# Altium footprint library PCB_Lib.PcbLib: 286 footprints (part 10 of 18)
Each footprint in its own frame and in the unit in brackets; x right, y up, seen from the top. Pads: shape width x height; smd on the part's side, far side on the other; paste and mask are expansions set on the pad; w line width, h text height; cw(c..) or ccw(c..) is an arc to the next point about the centre after c.
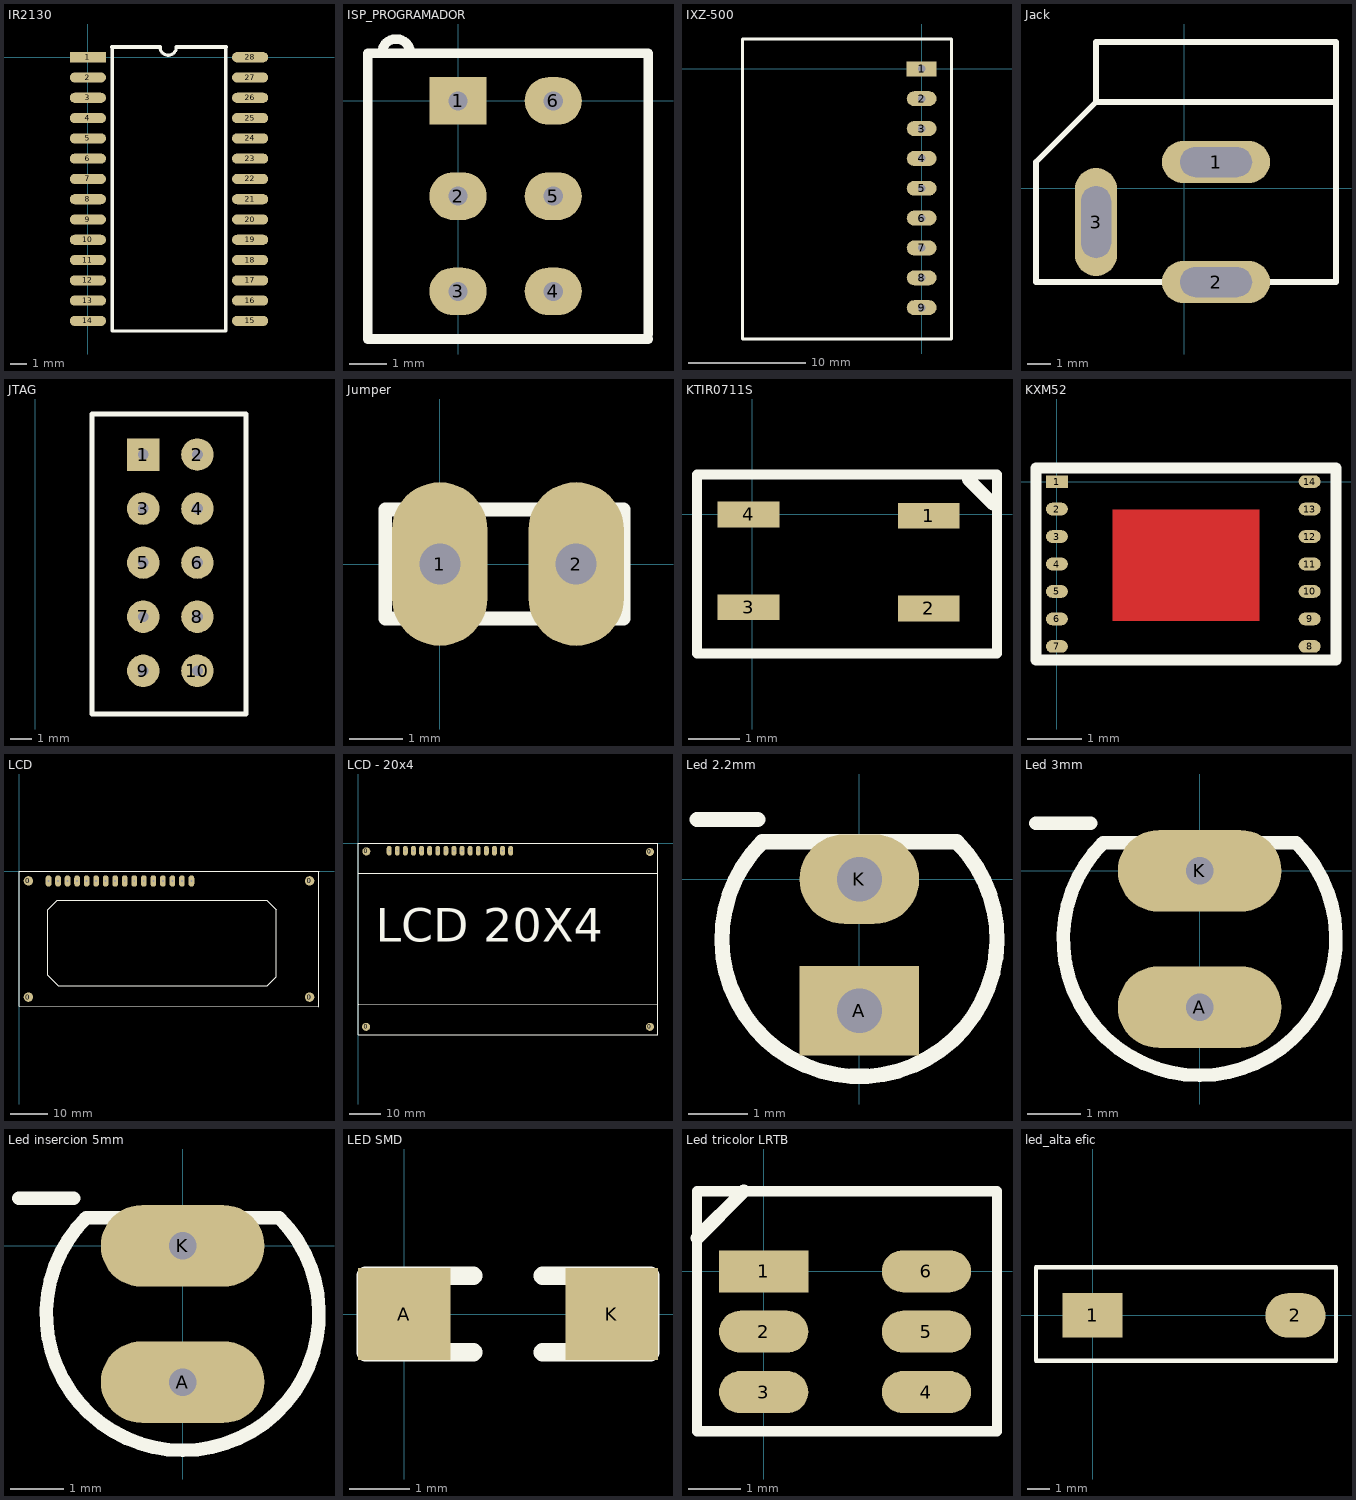
[diagram p9: the footprints below, top view; thin cyan lines are the x and y axes]

## IR2130 [mil]
pads (28):
  rect 89.21x25 smd: 1(0,0)
  oval 89.21x25 smd: 2(0,-50) 3(0,-100) 4(0,-150) 5(0,-200) 6(0,-250) 7(0,-300) 8(0,-350) 9(0,-400) 10(0,-450) 11(0,-500) 12(0,-550) 13(0,-600) 14(0,-650) 15(400,-650) 16(400,-600) 17(400,-550) 18(400,-500) 19(400,-450) 20(400,-400) 21(400,-350) 22(400,-300) 23(400,-250) 24(400,-200) 25(400,-150) 26(400,-100) 27(400,-50) 28(400,0)
Top Overlay:
  lines w7.87: 60,25 60,-675 340,-675 340,25 ; 178,25 ccw(c198,25) 218,25
  lines w10: 60,25 178,25 ; 218,25 340,25

## ISP_PROGRAMADOR [mil]
pads (6):
  rect 60x50 hole 20: 1(0,0)
  oval 60x50 hole 20: 2(0,-100) 3(0,-200) 4(100,-200) 5(100,-100) 6(100,0)
Top Overlay:
  lines w10: -80,50 cw(c-65,50) -50,50 ; 25,50 200,50 ; 75,50 -95,50 -95,-250 200,-250 ; 200,50 200,-245 200,50

## IXZ-500 [mil]
pads (9):
  rect 100x50 hole 25: 1(0,0)
  oval 100x50 hole 25: 2(0,-100) 3(0,-200) 4(0,-300) 5(0,-400) 6(0,-500) 7(0,-600) 8(0,-700) 9(0,-800)
Top Overlay:
  lines w10: -600,-905 -105,-905 100,-905 100,100 -600,100 -600,-905

## Jack [mil]
pads (3):
  oval 180x70 hole 50 slot 120 at 0 deg: 1(53,44) 2(53,-156)
  oval 70x180 hole 50 slot 120 at 90 deg: 3(-147,-56)
Top Overlay:
  lines w10: 253,144 -147,144 ; -147,144 -247,44 -247,-156 253,-156 253,244 -147,244 -147,144

## JTAG [mil]
height 100
pads (10):
  rect 60x60 hole 20: 1(200,-200)
  round 60 hole 20: 2(300,-200) 3(200,-300) 4(300,-300) 5(200,-400) 6(300,-400) 7(200,-500) 8(300,-500) 9(200,-600) 10(300,-600)
Top Overlay:
  lines w10: 105,-680 390,-680 390,-125 105,-125 105,-680

## Jumper [mil]
pads (2):
  oval 70x120 hole 30: 1(0,0) 2(100,0)
Top Overlay:
  lines w10: -40,-40 135,-40 135,40 -40,40 -40,-40

## KTIR0711S [mm]
pads (4):
  rect 1.2x0.5 smd: 1(3.425,-0.025) 2(3.425,-1.825) 3(-0.075,-1.8) 4(-0.075,0)
Top Overlay:
  lines w0.2: -1.075,-2.7 -1.075,0.775 4.75,0.775 4.75,-2.7 -1.075,-2.7
  lines w0.254: 4.2,0.675 4.675,0.2

## KXM52 [mm]
pads (14):
  rect 0.4x0.23 smd: 1(0,0)
  oval 0.4x0.23 smd: 2(0,-0.5) 3(0,-1) 4(0,-1.5) 5(0,-2) 6(0,-2.5) 7(0,-3) 8(4.6,-3) 9(4.6,-2.5) 10(4.6,-2) 11(4.6,-1.5) 12(4.6,-1) 13(4.6,-0.5) 14(4.6,0)
Top Layer:
  rectangle: 1.016,-2.54 3.683,-0.508
Top Overlay:
  lines w0.2: -0.381,-3.25 5.08,-3.25 5.08,0.25 2.175,0.25 -0.381,0.25 -0.381,-3.25

## LCD [mil] "16x2"
pads (20):
  round 98.42 hole 20: 0(98.42,-1318.9) 0(98.42,-98.42)
  round 98.43 hole 20: 0(3051.18,-1318.9) 0(3051.18,-98.42)
  oval 60x120 hole 20: 1(310,-100) 2(410,-100) 3(510,-100) 4(610,-100) 5(710,-100) 6(810,-100) 7(910,-100) 8(1010,-100) 9(1110,-100) 10(1210,-100) 11(1310,-100) 12(1410,-100) 13(1510,-100) 14(1610,-100) 15(1710,-100) 16(1810,-100)
Top Overlay:
  lines w10: 0,-1417.32 3149.61,-1417.32 3149.61,0 0,0 0,-1417.32 ; 300,-1090 410,-1200 2605,-1200 2700,-1105 2700,-400 2600,-300 400,-300 300,-400 300,-1090

## LCD - 20x4 [mil] "20x4"
pads (20):
  round 98.42 hole 20: 0(95,-2265) 0(98.42,-98.42)
  round 98.43 hole 20: 0(3600,-2265) 0(3600,-105)
  oval 60x120 hole 20: 1(380,-90) 2(480,-90) 3(580,-90) 4(680,-90) 5(780,-90) 6(880,-90) 7(980,-90) 8(1080,-90) 9(1180,-90) 10(1280,-90) 11(1380,-90) 12(1480,-90) 13(1580,-90) 14(1680,-90) 15(1780,-90) 16(1880,-90)
Top Overlay:
  lines w10: -5,-365 3700,-365 ; 5.03,-1985 3700,-1980 ; 0,-2360 0,0 3700,0 3700,-2360 0,-2360
  text "LCD 20X4" at 215,-1215 h414.33

## Led 2.2mm [mm] "no está modificado"
height 1.27
pads (2):
  rect 2x1.5 hole 0.75: A(0,-2.2)
  oval 2x1.5 hole 0.75: K(0,0)
Top Overlay:
  lines w0.254: -2.716,1 -1.7,1 ; -1.626,0.626 ccw(c0,-1) 1.626,0.626 -1.626,0.626

## Led 3mm [mil] "no está modificado"
height 50
pads (2):
  oval 120x60 hole 20: A(0,-100) K(0,0)
Top Overlay:
  lines w10: -120,35 -80,35 ; -70.71,20.71 ccw(c0,-50) 70.71,20.71 -70.71,20.71

## Led insercion 5mm [mil] "Led de insercion"
pads (2):
  oval 120x60 hole 20: A(0,-100) K(0,0)
Top Overlay:
  lines w10: -120,35 -80,35 ; -70.71,20.71 ccw(c0,-50) 70.71,20.71 -70.71,20.71

## LED SMD [mil] "SMD R&C"
pads (2):
  rect 60x60 smd: A(0,0) K(135,0)
Top Overlay:
  lines w12: 45,-25 10,-25 -25,-25 -25,25 -15,25 45,25 ; 90,-25 160,-25 160,25 90,25

## Led tricolor LRTB [mm]
pads (6):
  rect 1.7x0.8 smd: 1(0,0)
  oval 1.7x0.8 smd: 2(0,-1.15) 3(0,-2.3) 4(3.1,-2.3) 5(3.1,-1.15) 6(3.1,0)
Top Overlay:
  lines w0.2: 1.016,1.524 4.445,1.524 4.445,-3.048 -1.27,-3.048 -1.27,1.524 1.523,1.524
  lines w0.254: -1.27,0.635 -0.381,1.524

## led_alta efic [mm]
pads (2):
  rect 2.7x2 smd: 1(0,0)
  oval 2.7x2 smd: 2(9.1,0)
Top Overlay:
  lines w0.2: 2.185,2.159 10.922,2.159 10.922,-2.032 -2.54,-2.032 -2.54,2.159 3.925,2.159